# EAGLE library part BUTTONPAD-2X2 (library halcyonmod_Switches)
ButtonPad 2x2 - NO LED's Proven layout and schematic for 2x2 button pad from Sparkfun/Nathan Seidle. Panelize this device/fp to a 4x4 pad if needed.
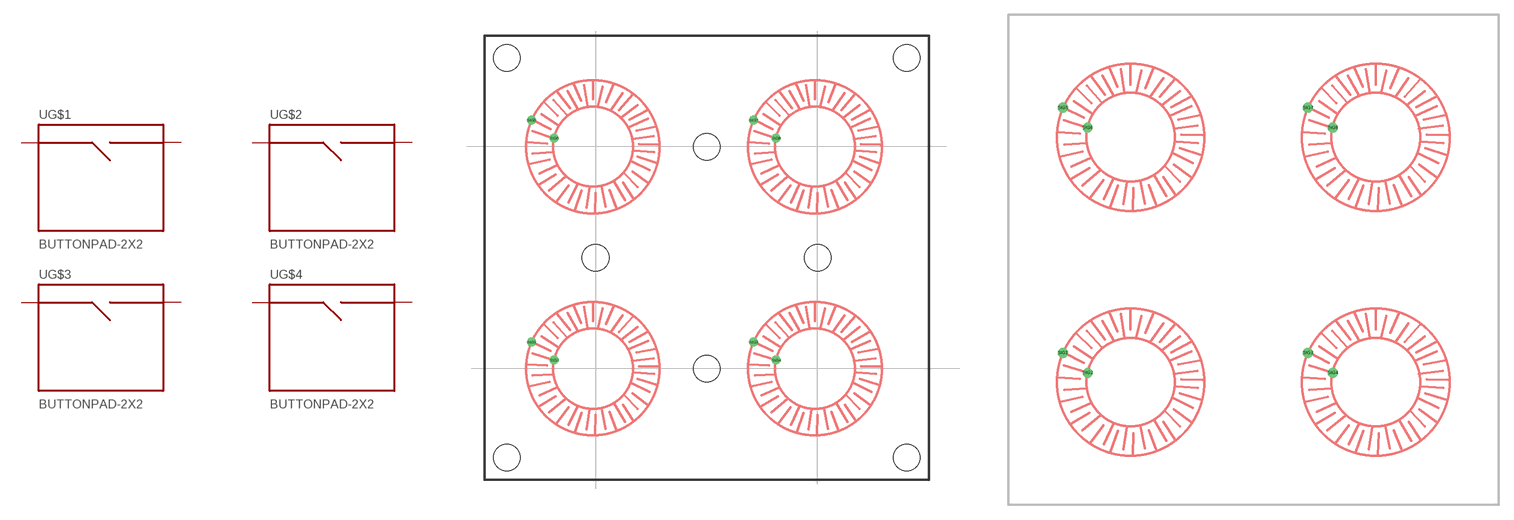
[diagram p3: symbol with the pads of BUTTONPAD-2X2; footprints BUTTONPAD-2X2, BUTTONPAD-2X2-DRC]

Designator prefix -; gates G$1=BUTTONPAD-SINGLE G$2=BUTTONPAD-SINGLE G$3=BUTTONPAD-SINGLE G$4=BUTTONPAD-SINGLE

## BUTTONPAD-2X2  [BUTTONPAD-2X2]
SIG1  G$1:SIG1
SIG2  G$1:SIG2
SIG3  G$2:SIG1
SIG4  G$2:SIG2
SIG5  G$3:SIG1
SIG6  G$3:SIG2
SIG7  G$4:SIG1
SIG8  G$4:SIG2

## BUTTONPAD-2X2-DRC  [BUTTONPAD-2X2-DRC]
Pads as for BUTTONPAD-2X2

## Footprint BUTTONPAD-2X2 (pad centres in mm)
drill 0.508: SIG1 5.288,15.513; SIG2 7.828,13.481; SIG3 30.288,15.513; SIG4 32.828,13.481; SIG5 5.288,40.513; SIG6 7.828,38.481; SIG7 30.288,40.513; SIG8 32.828,38.481
hole 3 at 2.5,2.5
hole 3 at 2.5,47.5
hole 3 at 47.5,47.5
hole 3 at 47.5,2.5
hole 3 at 12.5,25
hole 3 at 25,37.5
hole 3 at 37.5,25
hole 3 at 25,12.5

## Footprint BUTTONPAD-2X2-DRC (pad centres in mm)
drill 0.508: SIG1 5.542,15.513; SIG2 8.082,13.481; SIG3 30.542,15.513; SIG4 33.082,13.481; SIG5 5.542,40.513; SIG6 8.082,38.481; SIG7 30.542,40.513; SIG8 33.082,38.481